# EAGLE library part BT_OVC (library Bat-Components)
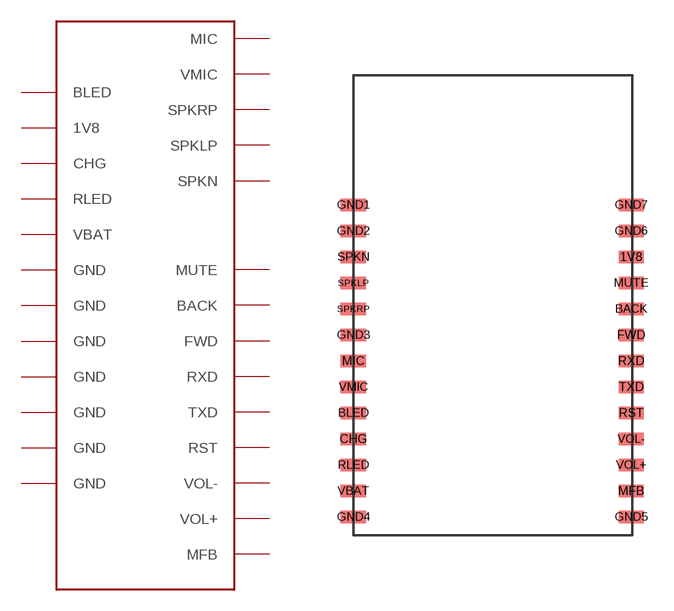
[diagram p4: symbol with the pads of BT_OVC; footprint BT_OVC]

Designator prefix -

## BT_OVC  [BT_OVC]
1V8  1V8
BACK  BACK
BLED  BLED
CHG  CHG
FWD  FWD
GND1  GND
GND2  GND
GND3  GND
GND4  GND
GND5  GND
GND6  GND
GND7  GND
MFB  MFB
MIC  MIC
MUTE  MUTE
RLED  RLED
RST  RST
RXD  RXD
SPKLP  SPKLP
SPKN  SPKN
SPKRP  SPKRP
TXD  TXD
VBAT  VBAT
VMIC  VMIC
VOL+  VOL+
VOL-  VOL-

## Footprint BT_OVC (pad centres in mm)
smd 1.27 x 0.635: 1V8 13.9,13.9; BACK 13.9,11.3; BLED 0,6.1; CHG 0,4.8; FWD 13.9,10; GND1 0,16.5; GND2 0,15.2; GND3 0,10; GND4 0,0.9; GND5 13.9,0.9; GND6 13.9,15.2; GND7 13.9,16.5; MFB 13.9,2.2; MIC 0,8.7; MUTE 13.9,12.6; RLED 0,3.5; RST 13.9,6.1; RXD 13.9,8.7; SPKLP 0,12.6; SPKN 0,13.9; SPKRP 0,11.3; TXD 13.9,7.4; VBAT 0,2.2; VMIC 0,7.4; VOL+ 13.9,3.5; VOL- 13.9,4.8